# Altium integrated library Linear Technology Power Management LDO Linear Regulators.IntLib: 2339 symbols (part 24 of 131)
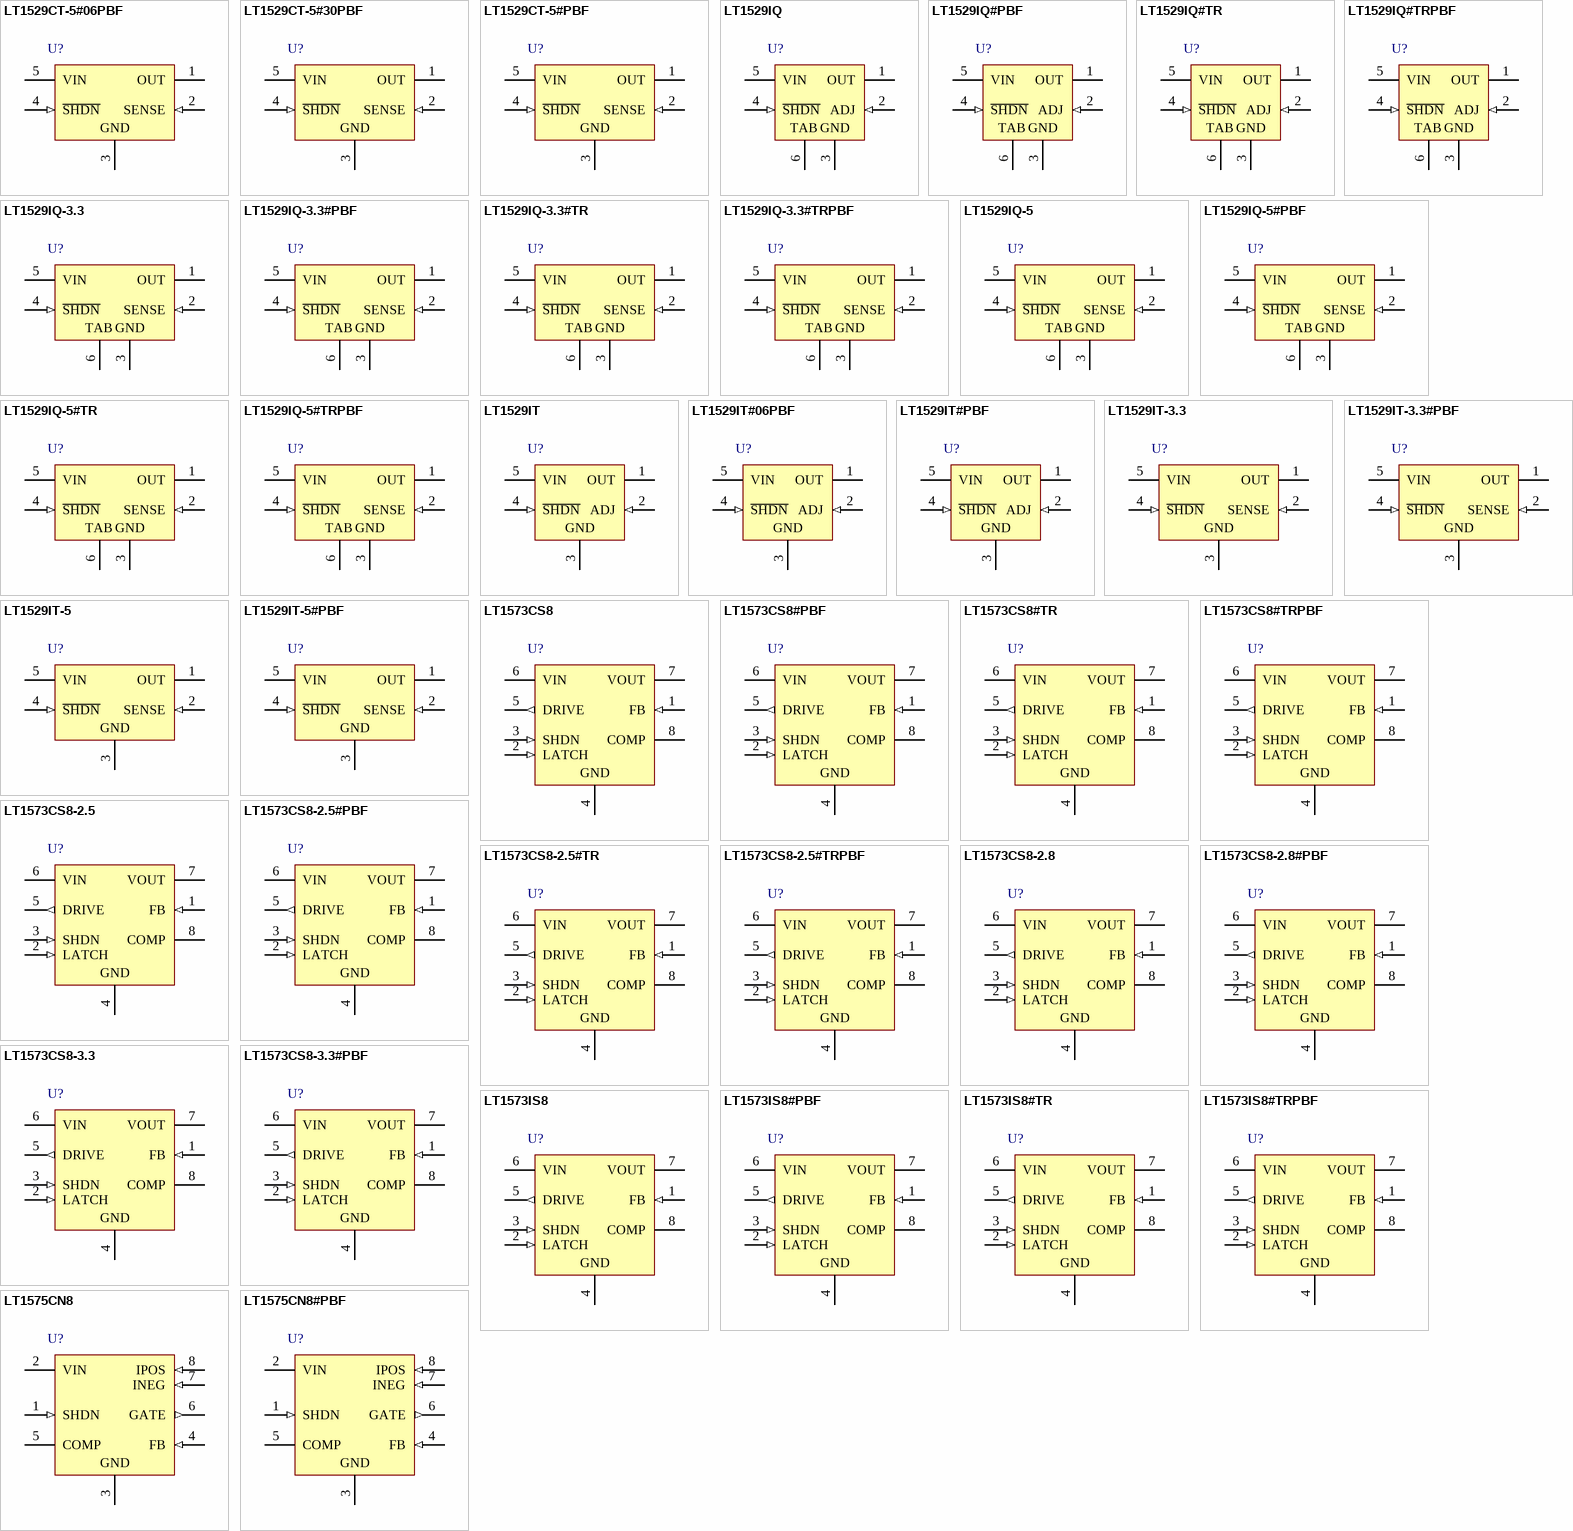
[diagram p92: symbols LT1529CT-5#06PBF to LT1575CN8#PBF]

## LT1573CS8-2.5#PBF
designator U?
Fast Transient Response, Requires External Transistor, 2.8 to 10 V Vin, 2.5 V Vout, 8-pin SOIC (S8-8), 0 to 125 degC, Pb-Free; Manufacturer: Linear Technology; PartNumber: LT1573CS8-2.5#PBF; Discrete Pass Element: yes; Iout(mA): 5000; Isupply(mA): 1.7; Number of Outputs: 1; Output Voltage: 2.5 V; Shutdown Current(uA): 200; Vin Max(V): 10; Vin Min(V): 2.8; DatasheetVersion: Rev. A; PackageVersion: Rev. G, 03/2012; PackageReference: S8-8; PackageDescription: 8-Pin Plastic Small Outline (Narrow .150 Inch), Body 4.9 x 3.9 mm, Pitch 1.27 mm; Supplier 1: Digi-Key; Supplier Part Number 1: LT1573CS8-2.5#PBF-ND; Supplier 2: Farnell; Supplier Part Number 2: 1273587; RoHS: TRUE; Mounting Technology: Surface Mount; ComponentLink1Description: Manufacturer URL; ComponentLink1URL: http://www.linear.com/; ComponentLink2Description: Datasheet; ComponentLink2URL: http://cds.linear.com/docs/en/datasheet/1573fa.pdf; ComponentLink3Description: Package Specification; ComponentLink3URL: http://cds.linear.com/docs/en/packaging/05081610_G_SO8.pdf
footprint LT-S8-8_N (SOIC, 8-Leads, Body 4.9x3.9mm, Pitch 1.27mm, IPC Medium Density)
footprint LT-S8-8_L (SOIC, 8-Leads, Body 4.9x3.9mm, Pitch 1.27mm, IPC High Density)
footprint LT-S8-8_M (SOIC, 8-Leads, Body 4.9x3.9mm, Pitch 1.27mm, IPC Low Density)
pins: 1 FB (in) "The feedback pin is the inverting input of the error amplifier. The noninverting input of the error amplifier is internally connected to a 1.265V reference. The error amplifier will servo the drive to the output transistor, (See Datasheet)", 2 LATCH (in) "The LT1573 provides overcurrent protection with a timed latch-off circuit. The latch-off time out is triggered when the DRIVE pin is pulled below the saturation voltage of the drive transistor. The saturation voltage is a (See Datasheet)", 3 SHDN (in) "The SHDN pin has two functions. It can be used to turn off the output voltage by disabling the drive to the output transistor. It can also be used to reset the current limit latch. The shutdown/reset functions are activated (See Datasheet)", 4 GND (power) "Circuit Ground.", 5 DRIVE (out) "The DRIVE pin is connected to the collector of the main drive transistor of the LT1573. This drive transistor sinks the base current of the external PNP output transistor. A resistor is normally inserted between the base of (See Datasheet)", 6 VIN (power) "This pin provides power to all internal circuitry of the LT1573 including bias, start-up, thermal limit, error amplifier and all overcurrent latch circuitry.", 7 VOUT (power) "The VOUT pin is the input to comparator C1 shown in Block Diagram. This pin is normally connected to the output. The comparator C1 is used to disable the overcurrent latch during start-up when the output transistor is (See Datasheet)", 8 COMP "A compensation network is inserted between the VOUT and COMP pins to obtain optimal transient response. Under normal condition, the DC voltage of the COMP pin sits at one VBE above ground."

## LT1573CS8-2.5#TR
designator U?
Fast Transient Response, Requires External Transistor, 2.8 to 10 V Vin, 2.5 V Vout, 8-pin SOIC (S8-8), 0 to 125 degC, Tape and Reel; Manufacturer: Linear Technology; PartNumber: LT1573CS8-2.5#TR; Discrete Pass Element: yes; Iout(mA): 5000; Isupply(mA): 1.7; Number of Outputs: 1; Output Voltage: 2.5 V; Shutdown Current(uA): 200; Vin Max(V): 10; Vin Min(V): 2.8; DatasheetVersion: Rev. A; PackageVersion: Rev. G, 03/2012; PackageReference: S8-8; PackageDescription: 8-Pin Plastic Small Outline (Narrow .150 Inch), Body 4.9 x 3.9 mm, Pitch 1.27 mm; Supplier 1: Digi-Key; Supplier Part Number 1: LT1573CS8-2.5#TR-ND; Packing: Tape and Reel; RoHS: FALSE; Mounting Technology: Surface Mount; ComponentLink1Description: Manufacturer URL; ComponentLink1URL: http://www.linear.com/; ComponentLink2Description: Datasheet; ComponentLink2URL: http://cds.linear.com/docs/en/datasheet/1573fa.pdf; ComponentLink3Description: Package Specification; ComponentLink3URL: http://cds.linear.com/docs/en/packaging/05081610_G_SO8.pdf
footprint LT-S8-8_N (SOIC, 8-Leads, Body 4.9x3.9mm, Pitch 1.27mm, IPC Medium Density)
footprint LT-S8-8_L (SOIC, 8-Leads, Body 4.9x3.9mm, Pitch 1.27mm, IPC High Density)
footprint LT-S8-8_M (SOIC, 8-Leads, Body 4.9x3.9mm, Pitch 1.27mm, IPC Low Density)
pins: 1 FB (in) "The feedback pin is the inverting input of the error amplifier. The noninverting input of the error amplifier is internally connected to a 1.265V reference. The error amplifier will servo the drive to the output transistor, (See Datasheet)", 2 LATCH (in) "The LT1573 provides overcurrent protection with a timed latch-off circuit. The latch-off time out is triggered when the DRIVE pin is pulled below the saturation voltage of the drive transistor. The saturation voltage is a (See Datasheet)", 3 SHDN (in) "The SHDN pin has two functions. It can be used to turn off the output voltage by disabling the drive to the output transistor. It can also be used to reset the current limit latch. The shutdown/reset functions are activated (See Datasheet)", 4 GND (power) "Circuit Ground.", 5 DRIVE (out) "The DRIVE pin is connected to the collector of the main drive transistor of the LT1573. This drive transistor sinks the base current of the external PNP output transistor. A resistor is normally inserted between the base of (See Datasheet)", 6 VIN (power) "This pin provides power to all internal circuitry of the LT1573 including bias, start-up, thermal limit, error amplifier and all overcurrent latch circuitry.", 7 VOUT (power) "The VOUT pin is the input to comparator C1 shown in Block Diagram. This pin is normally connected to the output. The comparator C1 is used to disable the overcurrent latch during start-up when the output transistor is (See Datasheet)", 8 COMP "A compensation network is inserted between the VOUT and COMP pins to obtain optimal transient response. Under normal condition, the DC voltage of the COMP pin sits at one VBE above ground."

## LT1573CS8-2.5#TRPBF
designator U?
Fast Transient Response, Requires External Transistor, 2.8 to 10 V Vin, 2.5 V Vout, 8-pin SOIC (S8-8), 0 to 125 degC, Pb-Free, Tape and Reel; Manufacturer: Linear Technology; PartNumber: LT1573CS8-2.5#TRPBF; Discrete Pass Element: yes; Iout(mA): 5000; Isupply(mA): 1.7; Number of Outputs: 1; Output Voltage: 2.5 V; Shutdown Current(uA): 200; Vin Max(V): 10; Vin Min(V): 2.8; DatasheetVersion: Rev. A; PackageVersion: Rev. G, 03/2012; PackageReference: S8-8; PackageDescription: 8-Pin Plastic Small Outline (Narrow .150 Inch), Body 4.9 x 3.9 mm, Pitch 1.27 mm; Supplier 1: Digi-Key; Supplier Part Number 1: LT1573CS8-2.5#TRPBF-ND; Packing: Tape and Reel; RoHS: TRUE; Mounting Technology: Surface Mount; ComponentLink1Description: Manufacturer URL; ComponentLink1URL: http://www.linear.com/; ComponentLink2Description: Datasheet; ComponentLink2URL: http://cds.linear.com/docs/en/datasheet/1573fa.pdf; ComponentLink3Description: Package Specification; ComponentLink3URL: http://cds.linear.com/docs/en/packaging/05081610_G_SO8.pdf
footprint LT-S8-8_N (SOIC, 8-Leads, Body 4.9x3.9mm, Pitch 1.27mm, IPC Medium Density)
footprint LT-S8-8_L (SOIC, 8-Leads, Body 4.9x3.9mm, Pitch 1.27mm, IPC High Density)
footprint LT-S8-8_M (SOIC, 8-Leads, Body 4.9x3.9mm, Pitch 1.27mm, IPC Low Density)
pins: 1 FB (in) "The feedback pin is the inverting input of the error amplifier. The noninverting input of the error amplifier is internally connected to a 1.265V reference. The error amplifier will servo the drive to the output transistor, (See Datasheet)", 2 LATCH (in) "The LT1573 provides overcurrent protection with a timed latch-off circuit. The latch-off time out is triggered when the DRIVE pin is pulled below the saturation voltage of the drive transistor. The saturation voltage is a (See Datasheet)", 3 SHDN (in) "The SHDN pin has two functions. It can be used to turn off the output voltage by disabling the drive to the output transistor. It can also be used to reset the current limit latch. The shutdown/reset functions are activated (See Datasheet)", 4 GND (power) "Circuit Ground.", 5 DRIVE (out) "The DRIVE pin is connected to the collector of the main drive transistor of the LT1573. This drive transistor sinks the base current of the external PNP output transistor. A resistor is normally inserted between the base of (See Datasheet)", 6 VIN (power) "This pin provides power to all internal circuitry of the LT1573 including bias, start-up, thermal limit, error amplifier and all overcurrent latch circuitry.", 7 VOUT (power) "The VOUT pin is the input to comparator C1 shown in Block Diagram. This pin is normally connected to the output. The comparator C1 is used to disable the overcurrent latch during start-up when the output transistor is (See Datasheet)", 8 COMP "A compensation network is inserted between the VOUT and COMP pins to obtain optimal transient response. Under normal condition, the DC voltage of the COMP pin sits at one VBE above ground."

## LT1573CS8-2.8
designator U?
Fast Transient Response, Requires External Transistor, 2.8 to 10 V Vin, 2.8 V Vout, 8-pin SOIC (S8-8), 0 to 125 degC; Manufacturer: Linear Technology; PartNumber: LT1573CS8-2.8; Discrete Pass Element: yes; Iout(mA): 5000; Isupply(mA): 1.7; Number of Outputs: 1; Output Voltage: 2.8 V; Shutdown Current(uA): 200; Vin Max(V): 10; Vin Min(V): 2.8; DatasheetVersion: Rev. A; PackageVersion: Rev. G, 03/2012; PackageReference: S8-8; PackageDescription: 8-Pin Plastic Small Outline (Narrow .150 Inch), Body 4.9 x 3.9 mm, Pitch 1.27 mm; Supplier 1: Digi-Key; Supplier Part Number 1: LT1573CS8-2.8-ND; RoHS: FALSE; Mounting Technology: Surface Mount; ComponentLink1Description: Manufacturer URL; ComponentLink1URL: http://www.linear.com/; ComponentLink2Description: Datasheet; ComponentLink2URL: http://cds.linear.com/docs/en/datasheet/1573fa.pdf; ComponentLink3Description: Package Specification; ComponentLink3URL: http://cds.linear.com/docs/en/packaging/05081610_G_SO8.pdf
footprint LT-S8-8_N (SOIC, 8-Leads, Body 4.9x3.9mm, Pitch 1.27mm, IPC Medium Density)
footprint LT-S8-8_L (SOIC, 8-Leads, Body 4.9x3.9mm, Pitch 1.27mm, IPC High Density)
footprint LT-S8-8_M (SOIC, 8-Leads, Body 4.9x3.9mm, Pitch 1.27mm, IPC Low Density)
pins: 1 FB (in) "The feedback pin is the inverting input of the error amplifier. The noninverting input of the error amplifier is internally connected to a 1.265V reference. The error amplifier will servo the drive to the output transistor, (See Datasheet)", 2 LATCH (in) "The LT1573 provides overcurrent protection with a timed latch-off circuit. The latch-off time out is triggered when the DRIVE pin is pulled below the saturation voltage of the drive transistor. The saturation voltage is a (See Datasheet)", 3 SHDN (in) "The SHDN pin has two functions. It can be used to turn off the output voltage by disabling the drive to the output transistor. It can also be used to reset the current limit latch. The shutdown/reset functions are activated (See Datasheet)", 4 GND (power) "Circuit Ground.", 5 DRIVE (out) "The DRIVE pin is connected to the collector of the main drive transistor of the LT1573. This drive transistor sinks the base current of the external PNP output transistor. A resistor is normally inserted between the base of (See Datasheet)", 6 VIN (power) "This pin provides power to all internal circuitry of the LT1573 including bias, start-up, thermal limit, error amplifier and all overcurrent latch circuitry.", 7 VOUT (power) "The VOUT pin is the input to comparator C1 shown in Block Diagram. This pin is normally connected to the output. The comparator C1 is used to disable the overcurrent latch during start-up when the output transistor is (See Datasheet)", 8 COMP "A compensation network is inserted between the VOUT and COMP pins to obtain optimal transient response. Under normal condition, the DC voltage of the COMP pin sits at one VBE above ground."

## LT1573CS8-2.8#PBF
designator U?
Fast Transient Response, Requires External Transistor, 2.8 to 10 V Vin, 2.8 V Vout, 8-pin SOIC (S8-8), 0 to 125 degC, Pb-Free; Manufacturer: Linear Technology; PartNumber: LT1573CS8-2.8#PBF; Discrete Pass Element: yes; Iout(mA): 5000; Isupply(mA): 1.7; Number of Outputs: 1; Output Voltage: 2.8 V; Shutdown Current(uA): 200; Vin Max(V): 10; Vin Min(V): 2.8; DatasheetVersion: Rev. A; PackageVersion: Rev. G, 03/2012; PackageReference: S8-8; PackageDescription: 8-Pin Plastic Small Outline (Narrow .150 Inch), Body 4.9 x 3.9 mm, Pitch 1.27 mm; Supplier 1: Digi-Key; Supplier Part Number 1: LT1573CS8-2.8#PBF-ND; Supplier 2: Farnell; Supplier Part Number 2: 1273588; RoHS: TRUE; Mounting Technology: Surface Mount; ComponentLink1Description: Manufacturer URL; ComponentLink1URL: http://www.linear.com/; ComponentLink2Description: Datasheet; ComponentLink2URL: http://cds.linear.com/docs/en/datasheet/1573fa.pdf; ComponentLink3Description: Package Specification; ComponentLink3URL: http://cds.linear.com/docs/en/packaging/05081610_G_SO8.pdf
footprint LT-S8-8_N (SOIC, 8-Leads, Body 4.9x3.9mm, Pitch 1.27mm, IPC Medium Density)
footprint LT-S8-8_L (SOIC, 8-Leads, Body 4.9x3.9mm, Pitch 1.27mm, IPC High Density)
footprint LT-S8-8_M (SOIC, 8-Leads, Body 4.9x3.9mm, Pitch 1.27mm, IPC Low Density)
pins: 1 FB (in) "The feedback pin is the inverting input of the error amplifier. The noninverting input of the error amplifier is internally connected to a 1.265V reference. The error amplifier will servo the drive to the output transistor, (See Datasheet)", 2 LATCH (in) "The LT1573 provides overcurrent protection with a timed latch-off circuit. The latch-off time out is triggered when the DRIVE pin is pulled below the saturation voltage of the drive transistor. The saturation voltage is a (See Datasheet)", 3 SHDN (in) "The SHDN pin has two functions. It can be used to turn off the output voltage by disabling the drive to the output transistor. It can also be used to reset the current limit latch. The shutdown/reset functions are activated (See Datasheet)", 4 GND (power) "Circuit Ground.", 5 DRIVE (out) "The DRIVE pin is connected to the collector of the main drive transistor of the LT1573. This drive transistor sinks the base current of the external PNP output transistor. A resistor is normally inserted between the base of (See Datasheet)", 6 VIN (power) "This pin provides power to all internal circuitry of the LT1573 including bias, start-up, thermal limit, error amplifier and all overcurrent latch circuitry.", 7 VOUT (power) "The VOUT pin is the input to comparator C1 shown in Block Diagram. This pin is normally connected to the output. The comparator C1 is used to disable the overcurrent latch during start-up when the output transistor is (See Datasheet)", 8 COMP "A compensation network is inserted between the VOUT and COMP pins to obtain optimal transient response. Under normal condition, the DC voltage of the COMP pin sits at one VBE above ground."

## LT1573CS8-3.3
designator U?
Fast Transient Response, Requires External Transistor, 2.8 to 10 V Vin, 3.3 V Vout, 8-pin SOIC (S8-8), 0 to 125 degC; Manufacturer: Linear Technology; PartNumber: LT1573CS8-3.3; Discrete Pass Element: yes; Iout(mA): 5000; Isupply(mA): 1.7; Number of Outputs: 1; Output Voltage: 3.3 V; Shutdown Current(uA): 200; Vin Max(V): 10; Vin Min(V): 2.8; DatasheetVersion: Rev. A; PackageVersion: Rev. G, 03/2012; PackageReference: S8-8; PackageDescription: 8-Pin Plastic Small Outline (Narrow .150 Inch), Body 4.9 x 3.9 mm, Pitch 1.27 mm; Supplier 1: Digi-Key; Supplier Part Number 1: LT1573CS8-3.3-ND; RoHS: FALSE; Mounting Technology: Surface Mount; ComponentLink1Description: Manufacturer URL; ComponentLink1URL: http://www.linear.com/; ComponentLink2Description: Datasheet; ComponentLink2URL: http://cds.linear.com/docs/en/datasheet/1573fa.pdf; ComponentLink3Description: Package Specification; ComponentLink3URL: http://cds.linear.com/docs/en/packaging/05081610_G_SO8.pdf
footprint LT-S8-8_N (SOIC, 8-Leads, Body 4.9x3.9mm, Pitch 1.27mm, IPC Medium Density)
footprint LT-S8-8_L (SOIC, 8-Leads, Body 4.9x3.9mm, Pitch 1.27mm, IPC High Density)
footprint LT-S8-8_M (SOIC, 8-Leads, Body 4.9x3.9mm, Pitch 1.27mm, IPC Low Density)
pins: 1 FB (in) "The feedback pin is the inverting input of the error amplifier. The noninverting input of the error amplifier is internally connected to a 1.265V reference. The error amplifier will servo the drive to the output transistor, (See Datasheet)", 2 LATCH (in) "The LT1573 provides overcurrent protection with a timed latch-off circuit. The latch-off time out is triggered when the DRIVE pin is pulled below the saturation voltage of the drive transistor. The saturation voltage is a (See Datasheet)", 3 SHDN (in) "The SHDN pin has two functions. It can be used to turn off the output voltage by disabling the drive to the output transistor. It can also be used to reset the current limit latch. The shutdown/reset functions are activated (See Datasheet)", 4 GND (power) "Circuit Ground.", 5 DRIVE (out) "The DRIVE pin is connected to the collector of the main drive transistor of the LT1573. This drive transistor sinks the base current of the external PNP output transistor. A resistor is normally inserted between the base of (See Datasheet)", 6 VIN (power) "This pin provides power to all internal circuitry of the LT1573 including bias, start-up, thermal limit, error amplifier and all overcurrent latch circuitry.", 7 VOUT (power) "The VOUT pin is the input to comparator C1 shown in Block Diagram. This pin is normally connected to the output. The comparator C1 is used to disable the overcurrent latch during start-up when the output transistor is (See Datasheet)", 8 COMP "A compensation network is inserted between the VOUT and COMP pins to obtain optimal transient response. Under normal condition, the DC voltage of the COMP pin sits at one VBE above ground."

## LT1573CS8-3.3#PBF
designator U?
Fast Transient Response, Requires External Transistor, 2.8 to 10 V Vin, 3.3 V Vout, 8-pin SOIC (S8-8), 0 to 125 degC, Pb-Free; Manufacturer: Linear Technology; PartNumber: LT1573CS8-3.3#PBF; Discrete Pass Element: yes; Iout(mA): 5000; Isupply(mA): 1.7; Number of Outputs: 1; Output Voltage: 3.3 V; Shutdown Current(uA): 200; Vin Max(V): 10; Vin Min(V): 2.8; DatasheetVersion: Rev. A; PackageVersion: Rev. G, 03/2012; PackageReference: S8-8; PackageDescription: 8-Pin Plastic Small Outline (Narrow .150 Inch), Body 4.9 x 3.9 mm, Pitch 1.27 mm; Supplier 1: Digi-Key; Supplier Part Number 1: LT1573CS8-3.3#PBF-ND; RoHS: TRUE; Mounting Technology: Surface Mount; ComponentLink1Description: Manufacturer URL; ComponentLink1URL: http://www.linear.com/; ComponentLink2Description: Datasheet; ComponentLink2URL: http://cds.linear.com/docs/en/datasheet/1573fa.pdf; ComponentLink3Description: Package Specification; ComponentLink3URL: http://cds.linear.com/docs/en/packaging/05081610_G_SO8.pdf
footprint LT-S8-8_N (SOIC, 8-Leads, Body 4.9x3.9mm, Pitch 1.27mm, IPC Medium Density)
footprint LT-S8-8_L (SOIC, 8-Leads, Body 4.9x3.9mm, Pitch 1.27mm, IPC High Density)
footprint LT-S8-8_M (SOIC, 8-Leads, Body 4.9x3.9mm, Pitch 1.27mm, IPC Low Density)
pins: 1 FB (in) "The feedback pin is the inverting input of the error amplifier. The noninverting input of the error amplifier is internally connected to a 1.265V reference. The error amplifier will servo the drive to the output transistor, (See Datasheet)", 2 LATCH (in) "The LT1573 provides overcurrent protection with a timed latch-off circuit. The latch-off time out is triggered when the DRIVE pin is pulled below the saturation voltage of the drive transistor. The saturation voltage is a (See Datasheet)", 3 SHDN (in) "The SHDN pin has two functions. It can be used to turn off the output voltage by disabling the drive to the output transistor. It can also be used to reset the current limit latch. The shutdown/reset functions are activated (See Datasheet)", 4 GND (power) "Circuit Ground.", 5 DRIVE (out) "The DRIVE pin is connected to the collector of the main drive transistor of the LT1573. This drive transistor sinks the base current of the external PNP output transistor. A resistor is normally inserted between the base of (See Datasheet)", 6 VIN (power) "This pin provides power to all internal circuitry of the LT1573 including bias, start-up, thermal limit, error amplifier and all overcurrent latch circuitry.", 7 VOUT (power) "The VOUT pin is the input to comparator C1 shown in Block Diagram. This pin is normally connected to the output. The comparator C1 is used to disable the overcurrent latch during start-up when the output transistor is (See Datasheet)", 8 COMP "A compensation network is inserted between the VOUT and COMP pins to obtain optimal transient response. Under normal condition, the DC voltage of the COMP pin sits at one VBE above ground."

## LT1573IS8
designator U?
Fast Transient Response, Requires External Transistor, 2.8 to 10 V Vin, 1.27 to 6.8 V Vout, 8-pin SOIC (S8-8), -40 to 125 degC; Manufacturer: Linear Technology; PartNumber: LT1573IS8; Discrete Pass Element: yes; Iout(mA): 5000; Isupply(mA): 1.7; Number of Outputs: 1; Output Voltage: Adj; Shutdown Current(uA): 200; Vin Max(V): 10; Vin Min(V): 2.8; Vout Max(V): 6.8; Vout Min(V): 1.27; DatasheetVersion: Rev. A; PackageVersion: Rev. G, 03/2012; PackageReference: S8-8; PackageDescription: 8-Pin Plastic Small Outline (Narrow .150 Inch), Body 4.9 x 3.9 mm, Pitch 1.27 mm; Supplier 1: Digi-Key; Supplier Part Number 1: LT1573IS8-ND; RoHS: FALSE; Mounting Technology: Surface Mount; ComponentLink1Description: Manufacturer URL; ComponentLink1URL: http://www.linear.com/; ComponentLink2Description: Datasheet; ComponentLink2URL: http://cds.linear.com/docs/en/datasheet/1573fa.pdf; ComponentLink3Description: Package Specification; ComponentLink3URL: http://cds.linear.com/docs/en/packaging/05081610_G_SO8.pdf
footprint LT-S8-8_N (SOIC, 8-Leads, Body 4.9x3.9mm, Pitch 1.27mm, IPC Medium Density)
footprint LT-S8-8_L (SOIC, 8-Leads, Body 4.9x3.9mm, Pitch 1.27mm, IPC High Density)
footprint LT-S8-8_M (SOIC, 8-Leads, Body 4.9x3.9mm, Pitch 1.27mm, IPC Low Density)
pins: 1 FB (in) "The feedback pin is the inverting input of the error amplifier. The noninverting input of the error amplifier is internally connected to a 1.265V reference. The error amplifier will servo the drive to the output transistor, (See Datasheet)", 2 LATCH (in) "The LT1573 provides overcurrent protection with a timed latch-off circuit. The latch-off time out is triggered when the DRIVE pin is pulled below the saturation voltage of the drive transistor. The saturation voltage is a (See Datasheet)", 3 SHDN (in) "The SHDN pin has two functions. It can be used to turn off the output voltage by disabling the drive to the output transistor. It can also be used to reset the current limit latch. The shutdown/reset functions are activated (See Datasheet)", 4 GND (power) "Circuit Ground.", 5 DRIVE (out) "The DRIVE pin is connected to the collector of the main drive transistor of the LT1573. This drive transistor sinks the base current of the external PNP output transistor. A resistor is normally inserted between the base of (See Datasheet)", 6 VIN (power) "This pin provides power to all internal circuitry of the LT1573 including bias, start-up, thermal limit, error amplifier and all overcurrent latch circuitry.", 7 VOUT (power) "The VOUT pin is the input to comparator C1 shown in Block Diagram. This pin is normally connected to the output. The comparator C1 is used to disable the overcurrent latch during start-up when the output transistor is (See Datasheet)", 8 COMP "A compensation network is inserted between the VOUT and COMP pins to obtain optimal transient response. Under normal condition, the DC voltage of the COMP pin sits at one VBE above ground."

## LT1573IS8#PBF
designator U?
Fast Transient Response, Requires External Transistor, 2.8 to 10 V Vin, 1.27 to 6.8 V Vout, 8-pin SOIC (S8-8), -40 to 125 degC, Pb-Free; Manufacturer: Linear Technology; PartNumber: LT1573IS8#PBF; Discrete Pass Element: yes; Iout(mA): 5000; Isupply(mA): 1.7; Number of Outputs: 1; Output Voltage: Adj; Shutdown Current(uA): 200; Vin Max(V): 10; Vin Min(V): 2.8; Vout Max(V): 6.8; Vout Min(V): 1.27; DatasheetVersion: Rev. A; PackageVersion: Rev. G, 03/2012; PackageReference: S8-8; PackageDescription: 8-Pin Plastic Small Outline (Narrow .150 Inch), Body 4.9 x 3.9 mm, Pitch 1.27 mm; Supplier 1: Digi-Key; Supplier Part Number 1: LT1573IS8#PBF-ND; RoHS: TRUE; Mounting Technology: Surface Mount; ComponentLink1Description: Manufacturer URL; ComponentLink1URL: http://www.linear.com/; ComponentLink2Description: Datasheet; ComponentLink2URL: http://cds.linear.com/docs/en/datasheet/1573fa.pdf; ComponentLink3Description: Package Specification; ComponentLink3URL: http://cds.linear.com/docs/en/packaging/05081610_G_SO8.pdf
footprint LT-S8-8_N (SOIC, 8-Leads, Body 4.9x3.9mm, Pitch 1.27mm, IPC Medium Density)
footprint LT-S8-8_L (SOIC, 8-Leads, Body 4.9x3.9mm, Pitch 1.27mm, IPC High Density)
footprint LT-S8-8_M (SOIC, 8-Leads, Body 4.9x3.9mm, Pitch 1.27mm, IPC Low Density)
pins: 1 FB (in) "The feedback pin is the inverting input of the error amplifier. The noninverting input of the error amplifier is internally connected to a 1.265V reference. The error amplifier will servo the drive to the output transistor, (See Datasheet)", 2 LATCH (in) "The LT1573 provides overcurrent protection with a timed latch-off circuit. The latch-off time out is triggered when the DRIVE pin is pulled below the saturation voltage of the drive transistor. The saturation voltage is a (See Datasheet)", 3 SHDN (in) "The SHDN pin has two functions. It can be used to turn off the output voltage by disabling the drive to the output transistor. It can also be used to reset the current limit latch. The shutdown/reset functions are activated (See Datasheet)", 4 GND (power) "Circuit Ground.", 5 DRIVE (out) "The DRIVE pin is connected to the collector of the main drive transistor of the LT1573. This drive transistor sinks the base current of the external PNP output transistor. A resistor is normally inserted between the base of (See Datasheet)", 6 VIN (power) "This pin provides power to all internal circuitry of the LT1573 including bias, start-up, thermal limit, error amplifier and all overcurrent latch circuitry.", 7 VOUT (power) "The VOUT pin is the input to comparator C1 shown in Block Diagram. This pin is normally connected to the output. The comparator C1 is used to disable the overcurrent latch during start-up when the output transistor is (See Datasheet)", 8 COMP "A compensation network is inserted between the VOUT and COMP pins to obtain optimal transient response. Under normal condition, the DC voltage of the COMP pin sits at one VBE above ground."

## LT1573IS8#TR
designator U?
Fast Transient Response, Requires External Transistor, 2.8 to 10 V Vin, 1.27 to 6.8 V Vout, 8-pin SOIC (S8-8), -40 to 125 degC, Tape and Reel; Manufacturer: Linear Technology; PartNumber: LT1573IS8#TR; Discrete Pass Element: yes; Iout(mA): 5000; Isupply(mA): 1.7; Number of Outputs: 1; Output Voltage: Adj; Shutdown Current(uA): 200; Vin Max(V): 10; Vin Min(V): 2.8; Vout Max(V): 6.8; Vout Min(V): 1.27; DatasheetVersion: Rev. A; PackageVersion: Rev. G, 03/2012; PackageReference: S8-8; PackageDescription: 8-Pin Plastic Small Outline (Narrow .150 Inch), Body 4.9 x 3.9 mm, Pitch 1.27 mm; Supplier 1: Digi-Key; Supplier Part Number 1: LT1573IS8#TR-ND; Packing: Tape and Reel; RoHS: FALSE; Mounting Technology: Surface Mount; ComponentLink1Description: Manufacturer URL; ComponentLink1URL: http://www.linear.com/; ComponentLink2Description: Datasheet; ComponentLink2URL: http://cds.linear.com/docs/en/datasheet/1573fa.pdf; ComponentLink3Description: Package Specification; ComponentLink3URL: http://cds.linear.com/docs/en/packaging/05081610_G_SO8.pdf
footprint LT-S8-8_N (SOIC, 8-Leads, Body 4.9x3.9mm, Pitch 1.27mm, IPC Medium Density)
footprint LT-S8-8_L (SOIC, 8-Leads, Body 4.9x3.9mm, Pitch 1.27mm, IPC High Density)
footprint LT-S8-8_M (SOIC, 8-Leads, Body 4.9x3.9mm, Pitch 1.27mm, IPC Low Density)
pins: 1 FB (in) "The feedback pin is the inverting input of the error amplifier. The noninverting input of the error amplifier is internally connected to a 1.265V reference. The error amplifier will servo the drive to the output transistor, (See Datasheet)", 2 LATCH (in) "The LT1573 provides overcurrent protection with a timed latch-off circuit. The latch-off time out is triggered when the DRIVE pin is pulled below the saturation voltage of the drive transistor. The saturation voltage is a (See Datasheet)", 3 SHDN (in) "The SHDN pin has two functions. It can be used to turn off the output voltage by disabling the drive to the output transistor. It can also be used to reset the current limit latch. The shutdown/reset functions are activated (See Datasheet)", 4 GND (power) "Circuit Ground.", 5 DRIVE (out) "The DRIVE pin is connected to the collector of the main drive transistor of the LT1573. This drive transistor sinks the base current of the external PNP output transistor. A resistor is normally inserted between the base of (See Datasheet)", 6 VIN (power) "This pin provides power to all internal circuitry of the LT1573 including bias, start-up, thermal limit, error amplifier and all overcurrent latch circuitry.", 7 VOUT (power) "The VOUT pin is the input to comparator C1 shown in Block Diagram. This pin is normally connected to the output. The comparator C1 is used to disable the overcurrent latch during start-up when the output transistor is (See Datasheet)", 8 COMP "A compensation network is inserted between the VOUT and COMP pins to obtain optimal transient response. Under normal condition, the DC voltage of the COMP pin sits at one VBE above ground."

## LT1573IS8#TRPBF
designator U?
Fast Transient Response, Requires External Transistor, 2.8 to 10 V Vin, 1.27 to 6.8 V Vout, 8-pin SOIC (S8-8), -40 to 125 degC, Pb-Free, Tape and Reel; Manufacturer: Linear Technology; PartNumber: LT1573IS8#TRPBF; Discrete Pass Element: yes; Iout(mA): 5000; Isupply(mA): 1.7; Number of Outputs: 1; Output Voltage: Adj; Shutdown Current(uA): 200; Vin Max(V): 10; Vin Min(V): 2.8; Vout Max(V): 6.8; Vout Min(V): 1.27; DatasheetVersion: Rev. A; PackageVersion: Rev. G, 03/2012; PackageReference: S8-8; PackageDescription: 8-Pin Plastic Small Outline (Narrow .150 Inch), Body 4.9 x 3.9 mm, Pitch 1.27 mm; Supplier 1: Digi-Key; Supplier Part Number 1: LT1573IS8#TRPBF-ND; Packing: Tape and Reel; RoHS: TRUE; Mounting Technology: Surface Mount; ComponentLink1Description: Manufacturer URL; ComponentLink1URL: http://www.linear.com/; ComponentLink2Description: Datasheet; ComponentLink2URL: http://cds.linear.com/docs/en/datasheet/1573fa.pdf; ComponentLink3Description: Package Specification; ComponentLink3URL: http://cds.linear.com/docs/en/packaging/05081610_G_SO8.pdf
footprint LT-S8-8_N (SOIC, 8-Leads, Body 4.9x3.9mm, Pitch 1.27mm, IPC Medium Density)
footprint LT-S8-8_L (SOIC, 8-Leads, Body 4.9x3.9mm, Pitch 1.27mm, IPC High Density)
footprint LT-S8-8_M (SOIC, 8-Leads, Body 4.9x3.9mm, Pitch 1.27mm, IPC Low Density)
pins: 1 FB (in) "The feedback pin is the inverting input of the error amplifier. The noninverting input of the error amplifier is internally connected to a 1.265V reference. The error amplifier will servo the drive to the output transistor, (See Datasheet)", 2 LATCH (in) "The LT1573 provides overcurrent protection with a timed latch-off circuit. The latch-off time out is triggered when the DRIVE pin is pulled below the saturation voltage of the drive transistor. The saturation voltage is a (See Datasheet)", 3 SHDN (in) "The SHDN pin has two functions. It can be used to turn off the output voltage by disabling the drive to the output transistor. It can also be used to reset the current limit latch. The shutdown/reset functions are activated (See Datasheet)", 4 GND (power) "Circuit Ground.", 5 DRIVE (out) "The DRIVE pin is connected to the collector of the main drive transistor of the LT1573. This drive transistor sinks the base current of the external PNP output transistor. A resistor is normally inserted between the base of (See Datasheet)", 6 VIN (power) "This pin provides power to all internal circuitry of the LT1573 including bias, start-up, thermal limit, error amplifier and all overcurrent latch circuitry.", 7 VOUT (power) "The VOUT pin is the input to comparator C1 shown in Block Diagram. This pin is normally connected to the output. The comparator C1 is used to disable the overcurrent latch during start-up when the output transistor is (See Datasheet)", 8 COMP "A compensation network is inserted between the VOUT and COMP pins to obtain optimal transient response. Under normal condition, the DC voltage of the COMP pin sits at one VBE above ground."

## LT1575CN8
designator U?
Ultrafast Transient Response, Low Dropout Regulator, 10 to 20 V Vin, Adjustable Vout, 8-pin DIP (N8-8), 0 to 70 degC; Manufacturer: Linear Technology; PartNumber: LT1575CN8; Discrete Pass Element: yes; Iout(mA): 1; Isupply(mA): 12; Output Voltage: Adj; Vin Max(V): 20; Vin Min(V): 10; Vout Min(V): 1.27; PackageVersion: Rev. I, 07/2011; PackageReference: N8-8; PackageDescription: 8-Pin PDIP, Body 10.16 x 6.48 mm, Pitch 2.54 mm; Supplier 1: Digi-Key; Supplier Part Number 1: LT1575CN8-ND; Number of Outputs: 1; RoHS: FALSE; Mounting Technology: Through Hole; ComponentLink1Description: Manufacturer URL; ComponentLink1URL: http://www.linear.com/; ComponentLink2Description: Datasheet; ComponentLink2URL: http://cds.linear.com/docs/en/datasheet/15757f.pdf; ComponentLink3Description: Package Specification; ComponentLink3URL: http://www.linear.com/docs/en/packaging/05081510_I_N8.pdf
footprint LT-N8-8 (DIP, 8-Leads, Body 10.16x6.48mm, Pitch 2.54mm)
pins: 1 SHDN (in) "This is a multifunction shutdown pin that provides GATE drive latchoff capability. A 15uA current source, that turns on when current limit is activated, charges a capacitor placed in series with SHDN to GND and performs a (See Datasheet)", 2 VIN (power) "This is the input supply for the IC that powers the majority of internal circuitry and provides sufficient gate drive compliance for the external N-channel MOSFET. The typical supply voltage is 12V with 12.5mA of quiescent (See Datasheet)", 3 GND (power) "Analog Ground. This pin is also the negative sense terminal for the internal 1.21V reference. Connect external feedback divider networks that terminate to GND and frequency compensation components that terminate to GND (See Datasheet)", 4 FB (in) "This is the inverting input of the error amplifier for the adjustable voltage LT1575. The noninverting input is tied to the internal 1.21V reference. Input bias current for this pin is typically 0.6uA flowing out of the pin. (See Datasheet)", 5 COMP "This is the high impedance gain node of the error amplifier and is used for external frequency compensation. The transconductance of the error amplifier is 15 millimhos and open-loop voltage gain is typically 84dB. Frequency (See Datasheet)", 6 GATE (out) "This is the output of the error amplifier that drives N-channel MOSFETs with up to 5000pF of “effective?gate capacitance. The typical open-loop output impedance is 2ohm. When using low input capacitance MOSF(See Datasheet)", 7 INEG (in) "This is the negative sense terminal of the current limit amplifier. A small sense resistor is connected in series with the drain of the external MOSFET and is connected between the IPOS and INEG pins. A 50mV threshold (See Datasheet)", 8 IPOS (in) "This is the positive sense terminal of the current limit amplifier. Tie this pin directly to the main input voltage from which the output voltage is regulated. The typical input voltage is a 5V logic supply. This pin is also (See Datasheet)"

## LT1575CN8#PBF
designator U?
Ultrafast Transient Response, Low Dropout Regulator, 10 to 20 V Vin, Adjustable Vout, 8-pin DIP (N8-8), 0 to 70 degC, Pb-Free; Manufacturer: Linear Technology; PartNumber: LT1575CN8#PBF; Discrete Pass Element: yes; Iout(mA): 1; Isupply(mA): 12; Output Voltage: Adj; Vin Max(V): 20; Vin Min(V): 10; Vout Min(V): 1.27; PackageVersion: Rev. I, 07/2011; PackageReference: N8-8; PackageDescription: 8-Pin PDIP, Body 10.16 x 6.48 mm, Pitch 2.54 mm; Supplier 1: Digi-Key; Supplier Part Number 1: LT1575CN8#PBF-ND; Number of Outputs: 1; RoHS: TRUE; Mounting Technology: Through Hole; ComponentLink1Description: Manufacturer URL; ComponentLink1URL: http://www.linear.com/; ComponentLink2Description: Datasheet; ComponentLink2URL: http://cds.linear.com/docs/en/datasheet/15757f.pdf; ComponentLink3Description: Package Specification; ComponentLink3URL: http://www.linear.com/docs/en/packaging/05081510_I_N8.pdf
footprint LT-N8-8 (DIP, 8-Leads, Body 10.16x6.48mm, Pitch 2.54mm)
pins: 1 SHDN (in) "This is a multifunction shutdown pin that provides GATE drive latchoff capability. A 15uA current source, that turns on when current limit is activated, charges a capacitor placed in series with SHDN to GND and performs a (See Datasheet)", 2 VIN (power) "This is the input supply for the IC that powers the majority of internal circuitry and provides sufficient gate drive compliance for the external N-channel MOSFET. The typical supply voltage is 12V with 12.5mA of quiescent (See Datasheet)", 3 GND (power) "Analog Ground. This pin is also the negative sense terminal for the internal 1.21V reference. Connect external feedback divider networks that terminate to GND and frequency compensation components that terminate to GND (See Datasheet)", 4 FB (in) "This is the inverting input of the error amplifier for the adjustable voltage LT1575. The noninverting input is tied to the internal 1.21V reference. Input bias current for this pin is typically 0.6uA flowing out of the pin. (See Datasheet)", 5 COMP "This is the high impedance gain node of the error amplifier and is used for external frequency compensation. The transconductance of the error amplifier is 15 millimhos and open-loop voltage gain is typically 84dB. Frequency (See Datasheet)", 6 GATE (out) "This is the output of the error amplifier that drives N-channel MOSFETs with up to 5000pF of “effective?gate capacitance. The typical open-loop output impedance is 2ohm. When using low input capacitance MOSF(See Datasheet)", 7 INEG (in) "This is the negative sense terminal of the current limit amplifier. A small sense resistor is connected in series with the drain of the external MOSFET and is connected between the IPOS and INEG pins. A 50mV threshold (See Datasheet)", 8 IPOS (in) "This is the positive sense terminal of the current limit amplifier. Tie this pin directly to the main input voltage from which the output voltage is regulated. The typical input voltage is a 5V logic supply. This pin is also (See Datasheet)"

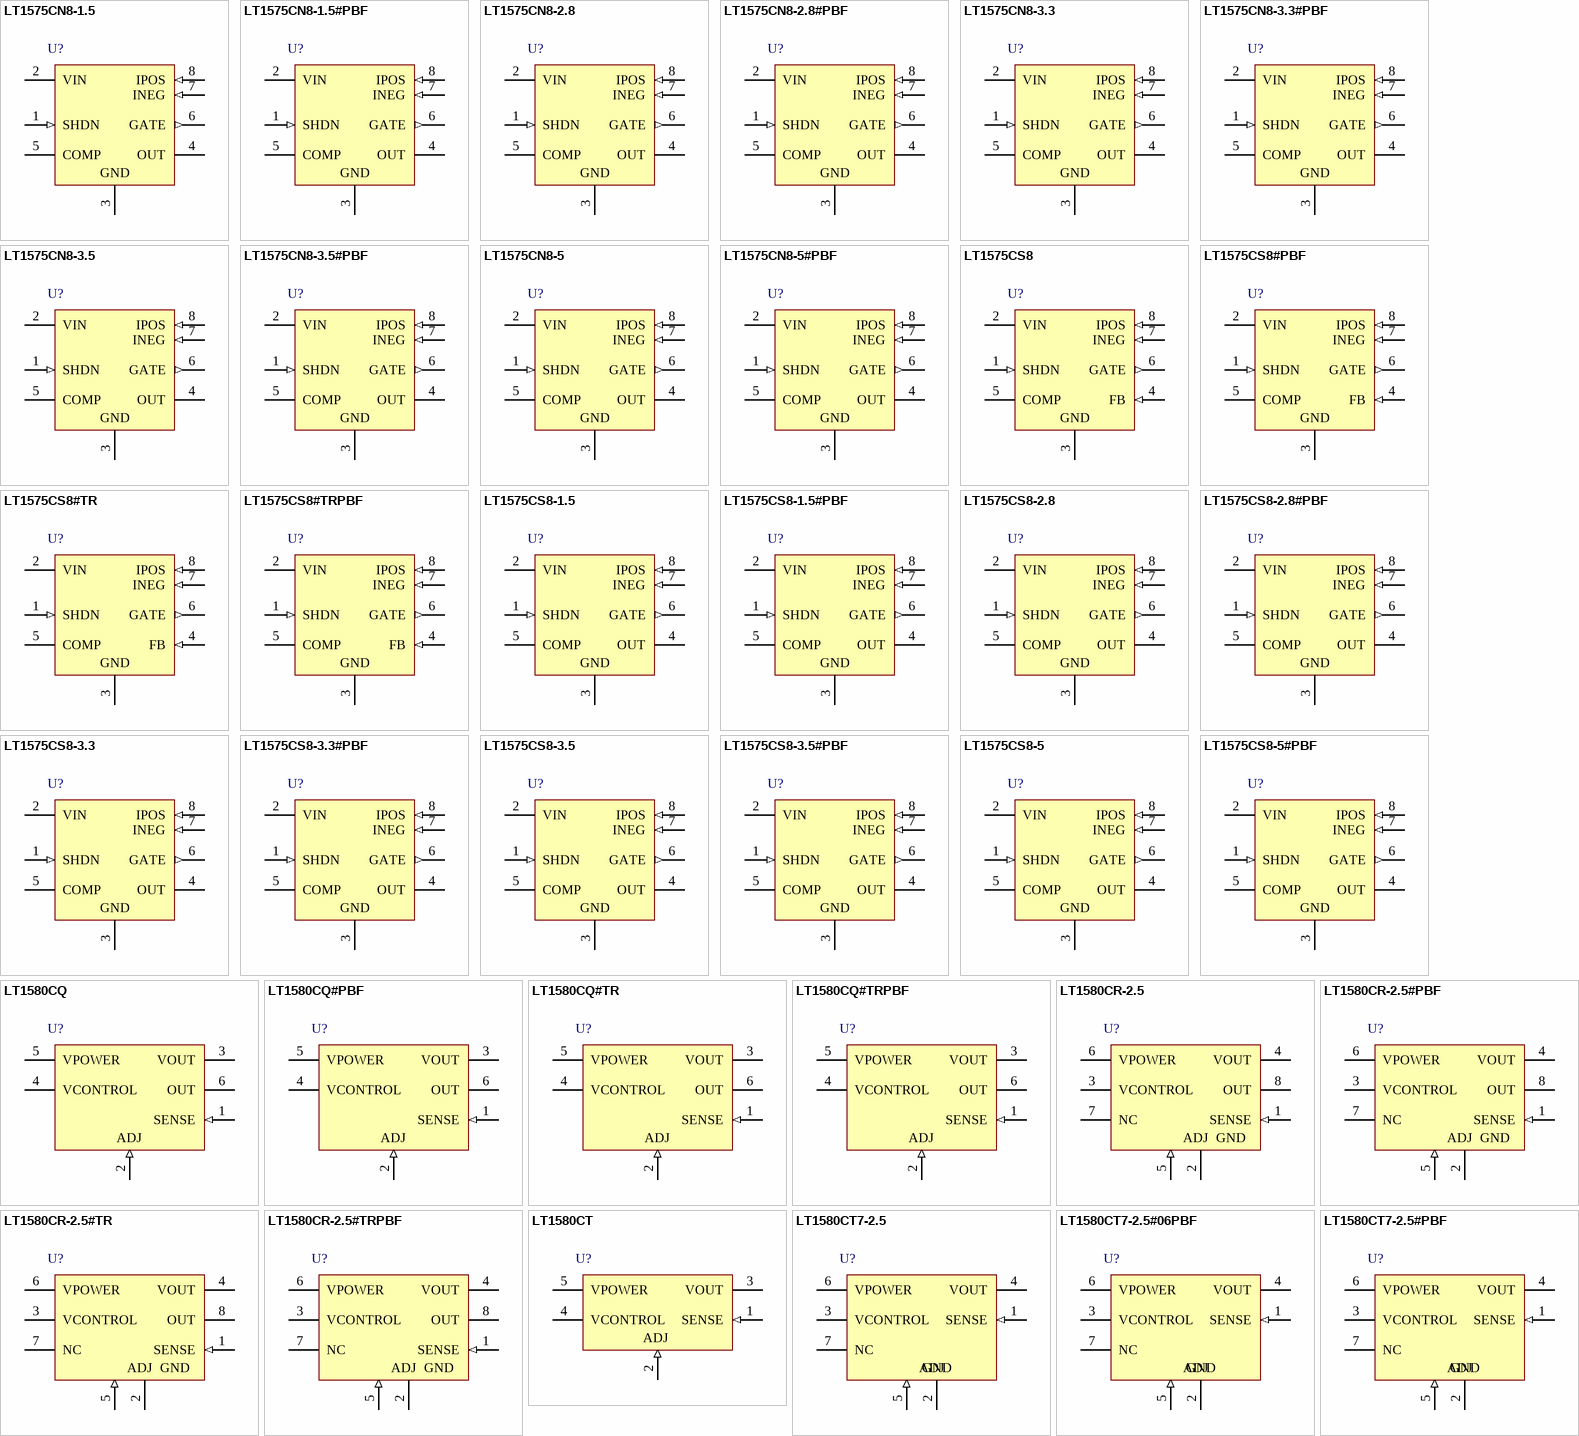
[diagram p17: symbols LT1575CN8-1.5 to LT1580CT7-2.5#PBF]

## LT1575CN8-1.5
designator U?
Ultrafast Transient Response, Low Dropout Regulator, 10 to 20 V Vin, 1.5 Vout, 8-pin DIP (N8-8), 0 to 70 degC; Manufacturer: Linear Technology; PartNumber: LT1575CN8-1.5; Discrete Pass Element: yes; Iout(mA): 1; Isupply(mA): 12; Output Voltage: 1.5; Vin Max(V): 20; Vin Min(V): 10; PackageVersion: Rev. I, 07/2011; PackageReference: N8-8; PackageDescription: 8-Pin PDIP, Body 10.16 x 6.48 mm, Pitch 2.54 mm; Supplier 1: Digi-Key; Supplier Part Number 1: LT1575CN8-1.5-ND; Number of Outputs: 1; RoHS: FALSE; Mounting Technology: Through Hole; ComponentLink1Description: Manufacturer URL; ComponentLink1URL: http://www.linear.com/; ComponentLink2Description: Datasheet; ComponentLink2URL: http://cds.linear.com/docs/en/datasheet/15757f.pdf; ComponentLink3Description: Package Specification; ComponentLink3URL: http://www.linear.com/docs/en/packaging/05081510_I_N8.pdf
footprint LT-N8-8 (DIP, 8-Leads, Body 10.16x6.48mm, Pitch 2.54mm)
pins: 1 SHDN (in) "This is a multifunction shutdown pin that provides GATE drive latchoff capability. A 15uA current source, that turns on when current limit is activated, charges a capacitor placed in series with SHDN to GND and performs a (See Datasheet)", 2 VIN (power) "This is the input supply for the IC that powers the majority of internal circuitry and provides sufficient gate drive compliance for the external N-channel MOSFET. The typical supply voltage is 12V with 12.5mA of quiescent (See Datasheet)", 3 GND (power) "Analog Ground. This pin is also the negative sense terminal for the internal 1.21V reference. Connect external feedback divider networks that terminate to GND and frequency compensation components that terminate to GND (See Datasheet)", 4 OUT (power) "This is the inverting input of the error amplifier for the fixed voltage LT1575. The fixed voltage parts contain a precision resistor divider network to set output voltage. The typical resistor divider current is 1mA into (See Datasheet)", 5 COMP "This is the high impedance gain node of the error amplifier and is used for external frequency compensation. The transconductance of the error amplifier is 15 millimhos and open-loop voltage gain is typically 84dB. Frequency (See Datasheet)", 6 GATE (out) "This is the output of the error amplifier that drives N-channel MOSFETs with up to 5000pF of “effective?gate capacitance. The typical open-loop output impedance is 2ohm. When using low input capacitance MOSF(See Datasheet)", 7 INEG (in) "This is the negative sense terminal of the current limit amplifier. A small sense resistor is connected in series with the drain of the external MOSFET and is connected between the IPOS and INEG pins. A 50mV threshold (See Datasheet)", 8 IPOS (in) "This is the positive sense terminal of the current limit amplifier. Tie this pin directly to the main input voltage from which the output voltage is regulated. The typical input voltage is a 5V logic supply. This pin is also (See Datasheet)"

## LT1575CN8-1.5#PBF
designator U?
Ultrafast Transient Response, Low Dropout Regulator, 10 to 20 V Vin, 1.5 Vout, 8-pin DIP (N8-8), 0 to 70 degC, Pb-Free; Manufacturer: Linear Technology; PartNumber: LT1575CN8-1.5#PBF; Discrete Pass Element: yes; Iout(mA): 1; Isupply(mA): 12; Output Voltage: 1.5; Vin Max(V): 20; Vin Min(V): 10; PackageVersion: Rev. I, 07/2011; PackageReference: N8-8; PackageDescription: 8-Pin PDIP, Body 10.16 x 6.48 mm, Pitch 2.54 mm; Supplier 1: Digi-Key; Supplier Part Number 1: LT1575CN8-1.5#PBF-ND; Number of Outputs: 1; RoHS: TRUE; Mounting Technology: Through Hole; ComponentLink1Description: Manufacturer URL; ComponentLink1URL: http://www.linear.com/; ComponentLink2Description: Datasheet; ComponentLink2URL: http://cds.linear.com/docs/en/datasheet/15757f.pdf; ComponentLink3Description: Package Specification; ComponentLink3URL: http://www.linear.com/docs/en/packaging/05081510_I_N8.pdf
footprint LT-N8-8 (DIP, 8-Leads, Body 10.16x6.48mm, Pitch 2.54mm)
pins: 1 SHDN (in) "This is a multifunction shutdown pin that provides GATE drive latchoff capability. A 15uA current source, that turns on when current limit is activated, charges a capacitor placed in series with SHDN to GND and performs a (See Datasheet)", 2 VIN (power) "This is the input supply for the IC that powers the majority of internal circuitry and provides sufficient gate drive compliance for the external N-channel MOSFET. The typical supply voltage is 12V with 12.5mA of quiescent (See Datasheet)", 3 GND (power) "Analog Ground. This pin is also the negative sense terminal for the internal 1.21V reference. Connect external feedback divider networks that terminate to GND and frequency compensation components that terminate to GND (See Datasheet)", 4 OUT (power) "This is the inverting input of the error amplifier for the fixed voltage LT1575. The fixed voltage parts contain a precision resistor divider network to set output voltage. The typical resistor divider current is 1mA into (See Datasheet)", 5 COMP "This is the high impedance gain node of the error amplifier and is used for external frequency compensation. The transconductance of the error amplifier is 15 millimhos and open-loop voltage gain is typically 84dB. Frequency (See Datasheet)", 6 GATE (out) "This is the output of the error amplifier that drives N-channel MOSFETs with up to 5000pF of “effective?gate capacitance. The typical open-loop output impedance is 2ohm. When using low input capacitance MOSF(See Datasheet)", 7 INEG (in) "This is the negative sense terminal of the current limit amplifier. A small sense resistor is connected in series with the drain of the external MOSFET and is connected between the IPOS and INEG pins. A 50mV threshold (See Datasheet)", 8 IPOS (in) "This is the positive sense terminal of the current limit amplifier. Tie this pin directly to the main input voltage from which the output voltage is regulated. The typical input voltage is a 5V logic supply. This pin is also (See Datasheet)"

## LT1575CN8-2.8
designator U?
Ultrafast Transient Response, Low Dropout Regulator, 10 to 20 V Vin, 2.8 Vout, 8-pin DIP (N8-8), 0 to 70 degC; Manufacturer: Linear Technology; PartNumber: LT1575CN8-2.8; Discrete Pass Element: yes; Iout(mA): 1; Isupply(mA): 12; Output Voltage: 2.8; Vin Max(V): 20; Vin Min(V): 10; PackageVersion: Rev. I, 07/2011; PackageReference: N8-8; PackageDescription: 8-Pin PDIP, Body 10.16 x 6.48 mm, Pitch 2.54 mm; Supplier 1: Digi-Key; Supplier Part Number 1: LT1575CN8-2.8-ND; Number of Outputs: 1; RoHS: FALSE; Mounting Technology: Through Hole; ComponentLink1Description: Manufacturer URL; ComponentLink1URL: http://www.linear.com/; ComponentLink2Description: Datasheet; ComponentLink2URL: http://cds.linear.com/docs/en/datasheet/15757f.pdf; ComponentLink3Description: Package Specification; ComponentLink3URL: http://www.linear.com/docs/en/packaging/05081510_I_N8.pdf
footprint LT-N8-8 (DIP, 8-Leads, Body 10.16x6.48mm, Pitch 2.54mm)
pins: 1 SHDN (in) "This is a multifunction shutdown pin that provides GATE drive latchoff capability. A 15uA current source, that turns on when current limit is activated, charges a capacitor placed in series with SHDN to GND and performs a (See Datasheet)", 2 VIN (power) "This is the input supply for the IC that powers the majority of internal circuitry and provides sufficient gate drive compliance for the external N-channel MOSFET. The typical supply voltage is 12V with 12.5mA of quiescent (See Datasheet)", 3 GND (power) "Analog Ground. This pin is also the negative sense terminal for the internal 1.21V reference. Connect external feedback divider networks that terminate to GND and frequency compensation components that terminate to GND (See Datasheet)", 4 OUT (power) "This is the inverting input of the error amplifier for the fixed voltage LT1575. The fixed voltage parts contain a precision resistor divider network to set output voltage. The typical resistor divider current is 1mA into (See Datasheet)", 5 COMP "This is the high impedance gain node of the error amplifier and is used for external frequency compensation. The transconductance of the error amplifier is 15 millimhos and open-loop voltage gain is typically 84dB. Frequency (See Datasheet)", 6 GATE (out) "This is the output of the error amplifier that drives N-channel MOSFETs with up to 5000pF of “effective?gate capacitance. The typical open-loop output impedance is 2ohm. When using low input capacitance MOSF(See Datasheet)", 7 INEG (in) "This is the negative sense terminal of the current limit amplifier. A small sense resistor is connected in series with the drain of the external MOSFET and is connected between the IPOS and INEG pins. A 50mV threshold (See Datasheet)", 8 IPOS (in) "This is the positive sense terminal of the current limit amplifier. Tie this pin directly to the main input voltage from which the output voltage is regulated. The typical input voltage is a 5V logic supply. This pin is also (See Datasheet)"